# EAGLE library part SC2262 (library user)
秋月電子通商 i-04507 uhf帯リモコン送信用IC
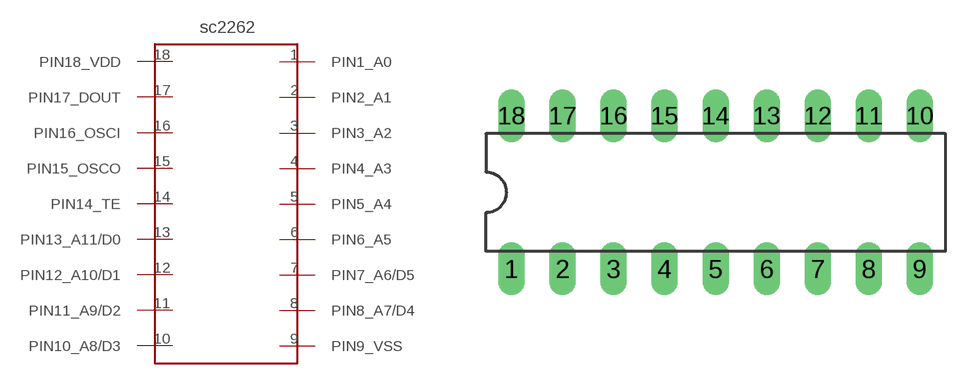
[diagram p15: symbol with the pads of SC2262; footprint SC2262]

Designator prefix -

## SC2262  [SC2262]
1  PIN1_A0
2  PIN2_A1
3  PIN3_A2
4  PIN4_A3
5  PIN5_A4
6  PIN6_A5
7  PIN7_A6/D5
8  PIN8_A7/D4
9  PIN9_VSS
10  PIN10_A8/D3
11  PIN11_A9/D2
12  PIN12_A10/D1
13  PIN13_A11/D0
14  PIN14_TE
15  PIN15_OSCO
16  PIN16_OSCI
17  PIN17_DOUT
18  PIN18_VDD

## Footprint SC2262 (pad centres in mm)
Dual In Line Package
drill 0.813 long: 1 -10.16,-3.81; 2 -7.62,-3.81; 3 -5.08,-3.81; 4 -2.54,-3.81; 5 0,-3.81; 6 2.54,-3.81; 7 5.08,-3.81; 8 7.62,-3.81; 9 10.16,-3.81; 10 10.16,3.81; 11 7.62,3.81; 12 5.08,3.81; 13 2.54,3.81; 14 0,3.81; 15 -2.54,3.81; 16 -5.08,3.81; 17 -7.62,3.81; 18 -10.16,3.81